# Altium footprint library C_size_D-STD.PcbLib: 1 footprints
Each footprint in its own frame and in the unit in brackets; x right, y up, seen from the top. Pads: shape width x height; smd on the part's side, far side on the other; paste and mask are expansions set on the pad; w line width, h text height; cw(c..) or ccw(c..) is an arc to the next point about the centre after c.
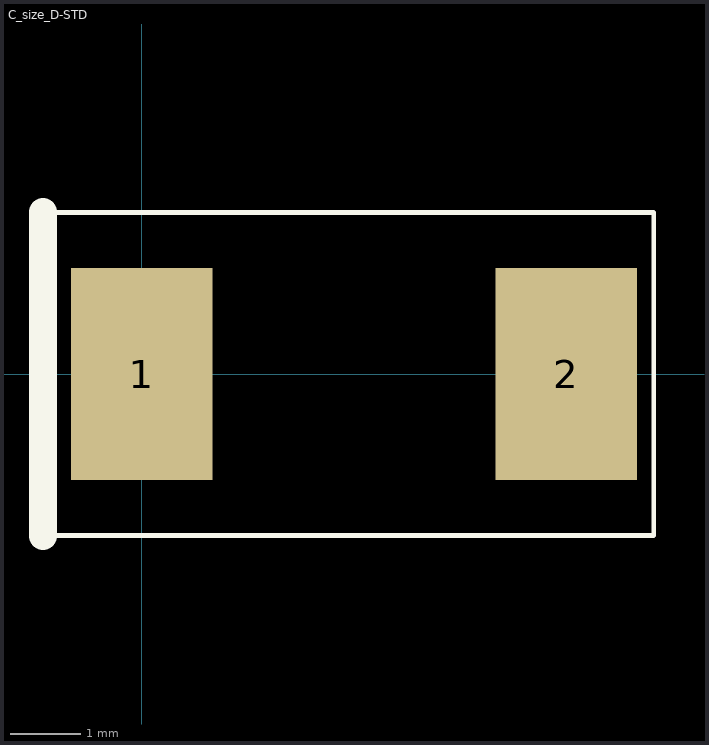
[diagram p0: the footprint, top view; thin cyan lines are the x and y axes]

## C_size_D-STD [mm]
pads (2):
  rect 2x3 smd: 1(0,0) 2(6,0)
Top Overlay:
  lines w0.07: -1.397,-2.286 7.239,-2.286 7.239,2.286 -1.397,2.286
  lines w0.4: -1.397,-2.286 -1.397,2.286
3D body: height 2.81, standoff 0, extent -0.599,-2.141 6.695,2.159